# EAGLE library part AMD_ELAN_SC_520 (library AMD_ELAN_SC_520)
MICROCONTROLLER
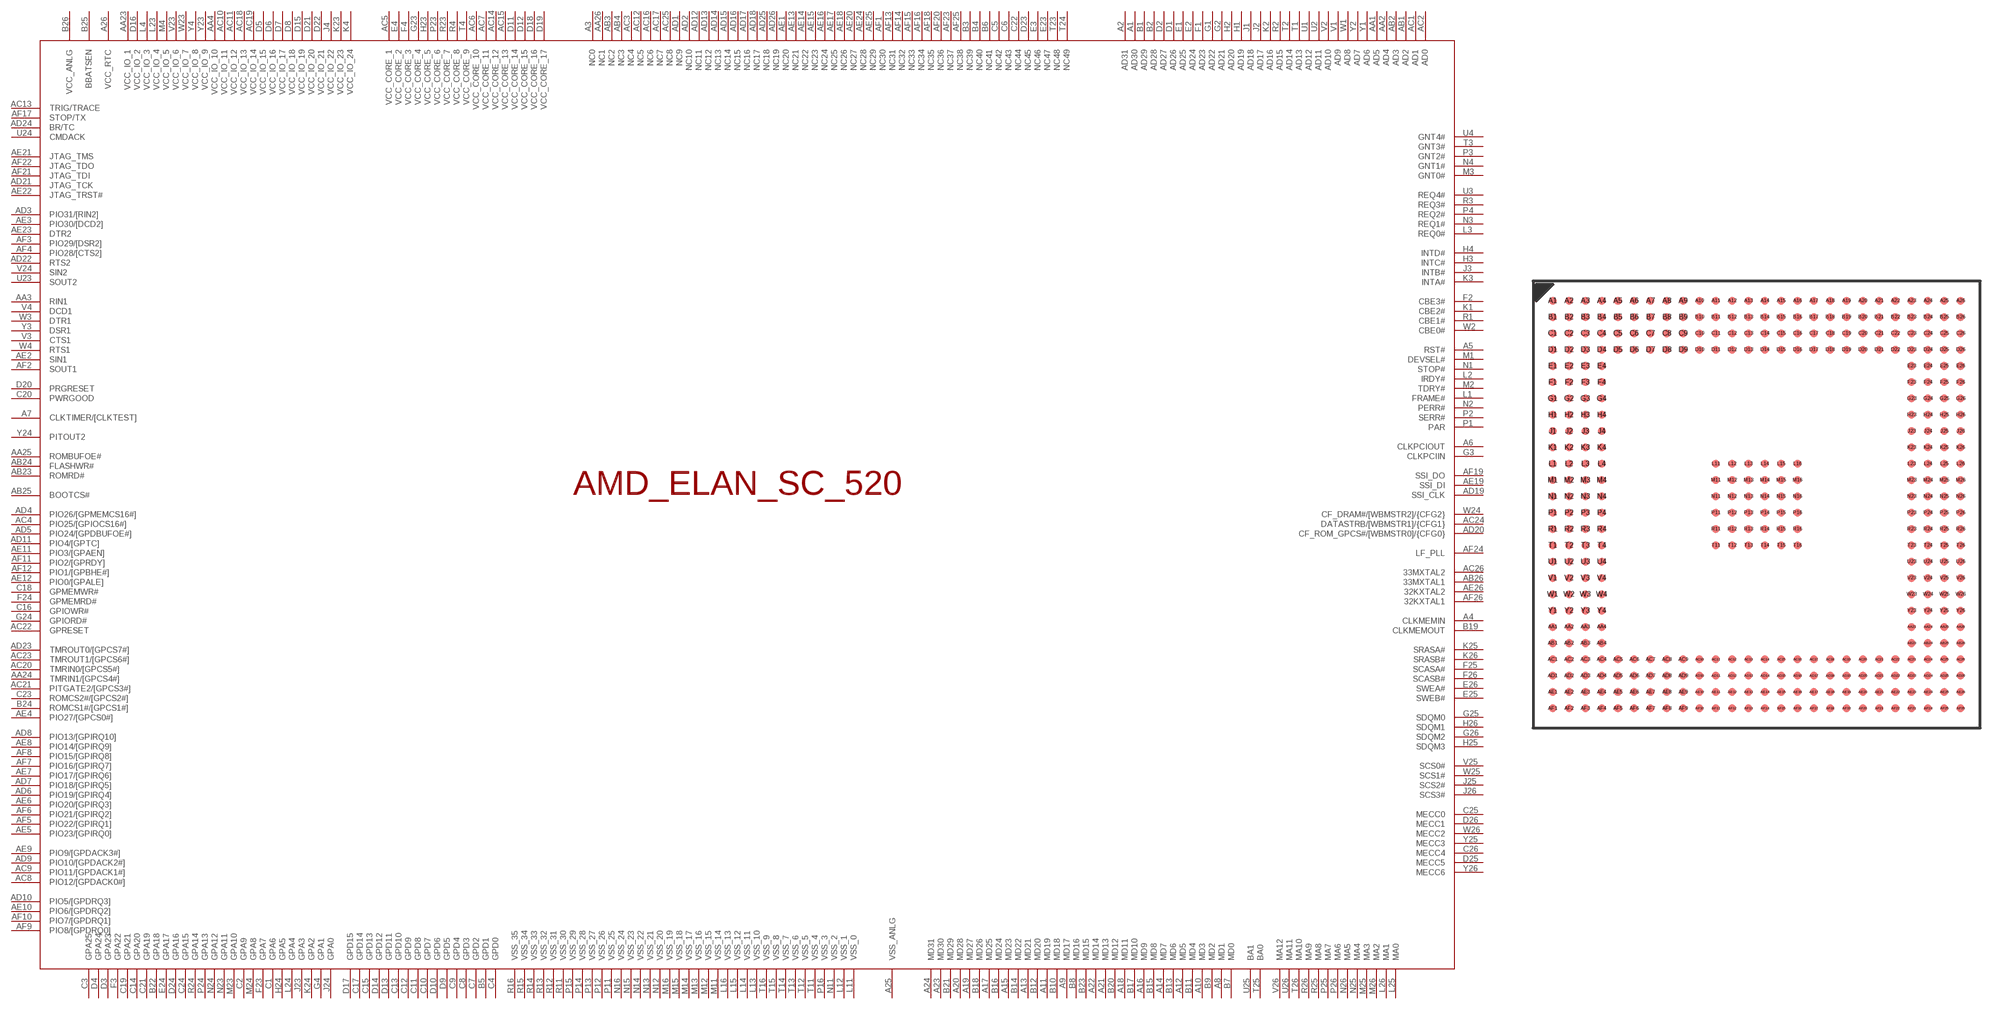
[diagram p0: symbol with the pads of AMD_SC_520_BGA_388; footprint AMD_SC_520_BGA_388]

Designator prefix IC

## AMD_ELAN_SC_520  [AMD_SC_520_BGA_388]
A1  AD30
A2  AD31
A3  NC0  nc
A4  CLKMEMIN  in
A5  RST#  out
A6  CLKPCIOUT  out
A7  CLKTIMER/[CLKTEST]  in
A8  MD1
A9  MD17
A10  MD3
A11  MD19
A12  MD5
A13  MD21
A14  MD7
A15  MD23
A16  MD9
A17  MD25
A18  MD11
A19  MD27
A20  MD28
A21  MD13
A22  MD14
A23  MD30
A24  MD31
A25  VSS_ANLG  pwr
A26  VCC_RTC  pwr
AA1  AD5
AA2  AD4
AA3  RIN1  in
AA4  VCC_IO_10  pwr
AA23  VCC_IO_1  pwr
AA24  TMRIN1/[GPCS4#]  in
AA25  ROMBUFOE#  out
AA26  NC1  nc
AB1  AD2
AB2  AD3
AB3  NC2  nc
AB4  NC3  nc
AB23  ROMRD#  out
AB24  FLASHWR#  out
AB25  BOOTCS#  out
AB26  33MXTAL1
AC1  AD1
AC2  AD0
AC3  NC4  nc
AC4  PIO25/[GPIOCS16#]  in
AC5  VCC_CORE_1  pwr
AC6  VCC_CORE_10  pwr
AC7  VCC_CORE_11  pwr
AC8  PIO12/[GPDACK0#]  out
AC9  PIO11/[GPDACK1#]  out
AC10  VCC_IO_11  pwr
AC11  VCC_IO_12  pwr
AC12  NC5  nc
AC13  TRIG/TRACE  out
AC14  VCC_CORE_12  pwr
AC15  VCC_CORE_13  pwr
AC16  NC6  nc
AC17  NC7  nc
AC18  VCC_IO_13  pwr
AC19  VCC_IO_14  pwr
AC20  TMRIN0/[GPCS5#]  in
AC21  PITGATE2/[GPCS3#]  out
AC22  GPRESET  out
AC23  TMROUT1/[GPCS6#]  out
AC24  DATASTRB/[WBMSTR1]/{CFG1}
AC25  NC8  nc
AC26  33MXTAL2  out
AD1  NC9  nc
AD2  NC10  nc
AD3  PIO31/[RIN2]  in
AD4  PIO26/[GPMEMCS16#]  in
AD5  PIO24/[GPDBUFOE#]  out
AD6  PIO19/[GPIRQ4]
AD7  PIO18/[GPIRQ5]
AD8  PIO13/[GPIRQ10]
AD9  PIO10/[GPDACK2#]  out
AD10  PIO5/[GPDRQ3]  in
AD11  PIO4/[GPTC]  out
AD12  NC11  nc
AD13  NC12  nc
AD14  NC13  nc
AD15  NC14  nc
AD16  NC15  nc
AD17  NC16  nc
AD18  NC17  nc
AD19  SSI_CLK  out
AD20  CF_ROM_GPCS#/[WBMSTR0]/{CFG0}
AD21  JTAG_TCK  in
AD22  RTS2  out
AD23  TMROUT0/[GPCS7#]  out
AD24  BR/TC  in
AD25  NC18  nc
AD26  NC19  nc
AE1  NC20  nc
AE2  SIN1  in
AE3  PIO30/[DCD2]  in
AE4  PIO27/[GPCS0#]
AE5  PIO23/[GPIRQ0]
AE6  PIO20/[GPIRQ3]
AE7  PIO17/[GPIRQ6]
AE8  PIO14/[GPIRQ9]
AE9  PIO9/[GPDACK3#]  out
AE10  PIO6/[GPDRQ2]  in
AE11  PIO3/[GPAEN]  out
AE12  PIO0/[GPALE]  out
AE13  NC21  nc
AE14  NC22  nc
AE15  NC23  nc
AE16  NC24  nc
AE17  NC25  nc
AE18  NC26  nc
AE19  SSI_DI  in
AE20  NC27  nc
AE21  JTAG_TMS  in
AE22  JTAG_TRST#  in
AE23  DTR2  out
AE24  NC28  nc
AE25  NC29  nc
AE26  32KXTAL2
AF1  NC30  nc
AF2  SOUT1  out
AF3  PIO29/[DSR2]  in
AF4  PIO28/[CTS2]  in
AF5  PIO22/[GPIRQ1]
AF6  PIO21/[GPIRQ2]
AF7  PIO16/[GPIRQ7]
AF8  PIO15/[GPIRQ8]
AF9  PIO8/[GPDRQ0]  in
AF10  PIO7/[GPDRQ1]  in
AF11  PIO2/[GPRDY]  in
AF12  PIO1/[GPBHE#]  out
AF13  NC31  nc
AF14  NC32  nc
AF15  NC33  nc
AF16  NC34  nc
AF17  STOP/TX  out
AF18  NC35  nc
AF19  SSI_DO  out
AF20  NC36  nc
AF21  JTAG_TDI  in
AF22  JTAG_TDO  out
AF23  NC37  nc
AF24  LF_PLL  in
AF25  NC38  nc
AF26  32KXTAL1
B1  AD29
B2  AD28
B3  NC39  nc
B4  NC40  nc
B5  GPD1
B6  NC41  nc
B7  MD0
B8  MD16
B9  MD2
B10  MD18
B11  MD4
B12  MD20
B13  MD6
B14  MD22
B15  MD8
B16  MD24
B17  MD10
B18  MD26
B19  CLKMEMOUT  out
B20  MD12
B21  MD29
B22  GPA18  out
B23  MD15
B24  ROMCS1#/[GPCS1#]  out
B25  BBATSEN
B26  VCC_ANLG  pwr
C1  GPA6  out
C2  GPA9  out
C3  GPA25  out
C4  GPD0
C5  NC42  nc
C6  NC43  nc
C7  GPD2
C8  GPD3
C9  GPD4
C10  GPD7
C11  GPD8
C12  GPD9
C13  GPD10
C14  GPA20  out
C15  GPD13
C16  GPIOWR#  out
C17  GPD14
C18  GPMEMWR#  out
C19  GPA21  out
C20  PWRGOOD  in
C21  GPA19  out
C22  NC44  nc
C23  ROMCS2#/[GPCS2#]  out
C24  GPA15  out
C25  MECC0
C26  MECC4
D1  AD26
D2  AD27
D3  GPA23  out
D4  GPA24  out
D5  VCC_IO_15  pwr
D6  VCC_IO_16  pwr
D7  VCC_IO_17  pwr
D8  VCC_IO_18  pwr
D9  GPD5
D10  GPD6
D11  VCC_CORE_14  pwr
D12  VCC_CORE_15  pwr
D13  GPD11
D14  GPD12
D15  VCC_IO_19  pwr
D16  VCC_IO_2  pwr
D17  GPD15
D18  VCC_CORE_16  pwr
D19  VCC_CORE_17  pwr
D20  PRGRESET  in
D21  VCC_IO_20  pwr
D22  VCC_IO_21  pwr
D23  NC45  nc
D24  GPA16  out
D25  MECC5
D26  MECC1
E1  AD25
E2  AD24
E3  NC46  nc
E4  VCC_CORE_2  pwr
E23  NC47  nc
E24  GPA17  out
E25  SWEB#  out
E26  SWEA#  out
F1  AD23
F2  CBE3#
F3  GPA22  out
F4  VCC_CORE_3  pwr
F23  GPA7  out
F24  GPMEMRD#  out
F25  SCASA#  out
F26  SCASB#  out
G1  AD22
G2  AD21
G3  CLKPCIIN  in
G4  GPA1  out
G23  VCC_CORE_4  pwr
G24  GPIORD#  out
G25  SDQM0  out
G26  SDQM2  out
H1  AD19
H2  AD20
H3  INTC#  in
H4  INTD#  in
H23  VCC_CORE_5  pwr
H24  GPA5  out
H25  SDQM3  out
H26  SDQM1  out
J1  AD18
J2  AD17
J3  INTB#  in
J4  VCC_IO_22  pwr
J23  GPA3  out
J24  GPA0  out
J25  SCS2#  out
J26  SCS3#  out
K1  CBE2#
K2  AD16
K3  INTA#  in
K4  VCC_IO_24  pwr
K23  VCC_IO_23  pwr
K24  GPA2  out
K25  SRASA#  out
K26  SRASB#  out
L1  FRAME#
L2  IRDY#
L3  REQ0#  in
L4  VCC_IO_3  pwr
L11  VSS_0  pwr
L12  VSS_1  pwr
L13  VSS_10  pwr
L14  VSS_11  pwr
L15  VSS_12  pwr
L16  VSS_13  pwr
L23  VCC_IO_4  pwr
L24  GPA4  out
L25  MA0  out
L26  MA1  out
M1  DEVSEL#
M2  TDRY#
M3  GNT0#  out
M4  VCC_IO_5  pwr
M11  VSS_14  pwr
M12  VSS_15  pwr
M13  VSS_16  pwr
M14  VSS_17  pwr
M15  VSS_18  pwr
M16  VSS_19  pwr
M23  GPA10  out
M24  GPA8  out
M25  MA3  out
M26  MA2  out
N1  STOP#
N2  PERR#
N3  REQ1#  in
N4  GNT1#  out
N11  VSS_2  pwr
N12  VSS_20  pwr
N13  VSS_21  pwr
N14  VSS_22  pwr
N15  VSS_23  pwr
N16  VSS_24  pwr
N23  GPA11  out
N24  GPA12  out
N25  MA4  out
N26  MA5  out
P1  PAR
P2  SERR#  in
P3  GNT2#  out
P4  REQ2#  in
P11  VSS_25  pwr
P12  VSS_26  pwr
P13  VSS_27  pwr
P14  VSS_28  pwr
P15  VSS_29  pwr
P16  VSS_3  pwr
P23  VCC_CORE_6  pwr
P24  GPA13  out
P25  MA7  out
P26  MA6  out
R1  CBE1#
R2  AD15
R3  REQ3#  in
R4  VCC_CORE_8  pwr
R11  VSS_30  pwr
R12  VSS_31  pwr
R13  VSS_32  pwr
R14  VSS_33  pwr
R15  VSS_34  pwr
R16  VSS_35  pwr
R23  VCC_CORE_7  pwr
R24  GPA14  out
R25  MA8  out
R26  MA9  out
T1  AD13
T2  AD14
T3  GNT3#  out
T4  VCC_CORE_9  pwr
T11  VSS_4  pwr
T12  VSS_5  pwr
T13  VSS_6  pwr
T14  VSS_7  pwr
T15  VSS_8  pwr
T16  VSS_9  pwr
T23  NC48  nc
T24  NC49  nc
T25  BA0  out
T26  MA10  out
U1  AD12
U2  AD11
U3  REQ4#  in
U4  GNT4#  out
U23  SOUT2  out
U24  CMDACK  out
U25  BA1  out
U26  MA11  out
V1  AD9
V2  AD10
V3  CTS1  in
V4  DCD1  in
V23  VCC_IO_6  pwr
V24  SIN2  in
V25  SCS0#  out
V26  MA12  out
W1  AD8
W2  CBE0#
W3  DTR1  out
W4  RTS1  out
W23  VCC_IO_7  pwr
W24  CF_DRAM#/[WBMSTR2]/{CFG2}
W25  SCS1#  out
W26  MECC2
Y1  AD6
Y2  AD7
Y3  DSR1  in
Y4  VCC_IO_8  pwr
Y23  VCC_IO_9  pwr
Y24  PITOUT2  out
Y25  MECC3
Y26  MECC6

## Footprint AMD_SC_520_BGA_388 (pad centres in mm)
Plastic Ball Grid Array
smd 0.635 x 0.635: A1 -15.875,15.875; A2 -14.605,15.875; A3 -13.335,15.875; A4 -12.065,15.875; A5 -10.795,15.875; A6 -9.525,15.875; A7 -8.255,15.875; A8 -6.985,15.875; A9 -5.715,15.875; A10 -4.445,15.875; A11 -3.175,15.875; A12 -1.905,15.875; A13 -0.635,15.875; A14 0.635,15.875; A15 1.905,15.875; A16 3.175,15.875; A17 4.445,15.875; A18 5.715,15.875; A19 6.985,15.875; A20 8.255,15.875; A21 9.525,15.875; A22 10.795,15.875; A23 12.065,15.875; A24 13.335,15.875; A25 14.605,15.875; A26 15.875,15.875; AA1 -15.875,-9.525; AA2 -14.605,-9.525; AA3 -13.335,-9.525; AA4 -12.065,-9.525; AA23 12.065,-9.525; AA24 13.335,-9.525; AA25 14.605,-9.525; AA26 15.875,-9.525; AB1 -15.875,-10.795; AB2 -14.605,-10.795; AB3 -13.335,-10.795; AB4 -12.065,-10.795; AB23 12.065,-10.795; AB24 13.335,-10.795; AB25 14.605,-10.795; AB26 15.875,-10.795; AC1 -15.875,-12.065; AC2 -14.605,-12.065; AC3 -13.335,-12.065; AC4 -12.065,-12.065; AC5 -10.795,-12.065; AC6 -9.525,-12.065; AC7 -8.255,-12.065; AC8 -6.985,-12.065; AC9 -5.715,-12.065; AC10 -4.445,-12.065; AC11 -3.175,-12.065; AC12 -1.905,-12.065; AC13 -0.635,-12.065; AC14 0.635,-12.065; AC15 1.905,-12.065; AC16 3.175,-12.065; AC17 4.445,-12.065; AC18 5.715,-12.065; AC19 6.985,-12.065; AC20 8.255,-12.065; AC21 9.525,-12.065; AC22 10.795,-12.065; AC23 12.065,-12.065; AC24 13.335,-12.065; AC25 14.605,-12.065; AC26 15.875,-12.065; AD1 -15.875,-13.335; AD2 -14.605,-13.335; AD3 -13.335,-13.335; AD4 -12.065,-13.335; AD5 -10.795,-13.335; AD6 -9.525,-13.335; AD7 -8.255,-13.335; AD8 -6.985,-13.335; AD9 -5.715,-13.335; AD10 -4.445,-13.335; AD11 -3.175,-13.335; AD12 -1.905,-13.335; AD13 -0.635,-13.335; AD14 0.635,-13.335; AD15 1.905,-13.335; AD16 3.175,-13.335; AD17 4.445,-13.335; AD18 5.715,-13.335; AD19 6.985,-13.335; AD20 8.255,-13.335; AD21 9.525,-13.335; AD22 10.795,-13.335; AD23 12.065,-13.335; AD24 13.335,-13.335; AD25 14.605,-13.335; AD26 15.875,-13.335; AE1 -15.875,-14.605; AE2 -14.605,-14.605; AE3 -13.335,-14.605; AE4 -12.065,-14.605; AE5 -10.795,-14.605; AE6 -9.525,-14.605; AE7 -8.255,-14.605; AE8 -6.985,-14.605; AE9 -5.715,-14.605; AE10 -4.445,-14.605; AE11 -3.175,-14.605; AE12 -1.905,-14.605; AE13 -0.635,-14.605; AE14 0.635,-14.605; AE15 1.905,-14.605; AE16 3.175,-14.605; AE17 4.445,-14.605; AE18 5.715,-14.605; AE19 6.985,-14.605; AE20 8.255,-14.605; AE21 9.525,-14.605; AE22 10.795,-14.605; AE23 12.065,-14.605; AE24 13.335,-14.605; AE25 14.605,-14.605; AE26 15.875,-14.605; AF1 -15.875,-15.875; AF2 -14.605,-15.875; AF3 -13.335,-15.875; AF4 -12.065,-15.875; AF5 -10.795,-15.875; AF6 -9.525,-15.875; AF7 -8.255,-15.875; AF8 -6.985,-15.875; AF9 -5.715,-15.875; AF10 -4.445,-15.875; AF11 -3.175,-15.875; AF12 -1.905,-15.875; AF13 -0.635,-15.875; AF14 0.635,-15.875; AF15 1.905,-15.875; AF16 3.175,-15.875; AF17 4.445,-15.875; AF18 5.715,-15.875; AF19 6.985,-15.875; AF20 8.255,-15.875; AF21 9.525,-15.875; AF22 10.795,-15.875; AF23 12.065,-15.875; AF24 13.335,-15.875; AF25 14.605,-15.875; AF26 15.875,-15.875; B1 -15.875,14.605; B2 -14.605,14.605; B3 -13.335,14.605; B4 -12.065,14.605; B5 -10.795,14.605; B6 -9.525,14.605; B7 -8.255,14.605; B8 -6.985,14.605; B9 -5.715,14.605; B10 -4.445,14.605; B11 -3.175,14.605; B12 -1.905,14.605; B13 -0.635,14.605; B14 0.635,14.605; B15 1.905,14.605; B16 3.175,14.605; B17 4.445,14.605; B18 5.715,14.605; B19 6.985,14.605; B20 8.255,14.605; B21 9.525,14.605; B22 10.795,14.605; B23 12.065,14.605; B24 13.335,14.605; B25 14.605,14.605; B26 15.875,14.605; C1 -15.875,13.335; C2 -14.605,13.335; C3 -13.335,13.335; C4 -12.065,13.335; C5 -10.795,13.335; C6 -9.525,13.335; C7 -8.255,13.335; C8 -6.985,13.335; C9 -5.715,13.335; C10 -4.445,13.335; C11 -3.175,13.335; C12 -1.905,13.335; C13 -0.635,13.335; C14 0.635,13.335; C15 1.905,13.335; C16 3.175,13.335; C17 4.445,13.335; C18 5.715,13.335; C19 6.985,13.335; C20 8.255,13.335; C21 9.525,13.335; C22 10.795,13.335; C23 12.065,13.335; C24 13.335,13.335; C25 14.605,13.335; C26 15.875,13.335; D1 -15.875,12.065; D2 -14.605,12.065; D3 -13.335,12.065; D4 -12.065,12.065; D5 -10.795,12.065; D6 -9.525,12.065; D7 -8.255,12.065; D8 -6.985,12.065; D9 -5.715,12.065; D10 -4.445,12.065; D11 -3.175,12.065; D12 -1.905,12.065; D13 -0.635,12.065; D14 0.635,12.065; D15 1.905,12.065; D16 3.175,12.065; D17 4.445,12.065; D18 5.715,12.065; D19 6.985,12.065; D20 8.255,12.065; D21 9.525,12.065; D22 10.795,12.065; D23 12.065,12.065; D24 13.335,12.065; D25 14.605,12.065; D26 15.875,12.065; E1 -15.875,10.795; E2 -14.605,10.795; E3 -13.335,10.795; E4 -12.065,10.795; E23 12.065,10.795; E24 13.335,10.795; E25 14.605,10.795; E26 15.875,10.795; F1 -15.875,9.525; F2 -14.605,9.525; F3 -13.335,9.525; F4 -12.065,9.525; F23 12.065,9.525; F24 13.335,9.525; F25 14.605,9.525; F26 15.875,9.525; G1 -15.875,8.255; G2 -14.605,8.255; G3 -13.335,8.255; G4 -12.065,8.255; G23 12.065,8.255; G24 13.335,8.255; G25 14.605,8.255; G26 15.875,8.255; H1 -15.875,6.985; H2 -14.605,6.985; H3 -13.335,6.985; H4 -12.065,6.985; H23 12.065,6.985; H24 13.335,6.985; H25 14.605,6.985; H26 15.875,6.985; J1 -15.875,5.715; J2 -14.605,5.715; J3 -13.335,5.715; J4 -12.065,5.715; J23 12.065,5.715; J24 13.335,5.715; J25 14.605,5.715; J26 15.875,5.715; K1 -15.875,4.445; K2 -14.605,4.445; K3 -13.335,4.445; K4 -12.065,4.445; K23 12.065,4.445; K24 13.335,4.445; K25 14.605,4.445; K26 15.875,4.445; L1 -15.875,3.175; L2 -14.605,3.175; L3 -13.335,3.175; L4 -12.065,3.175; L11 -3.175,3.175; L12 -1.905,3.175; L13 -0.635,3.175; L14 0.635,3.175; L15 1.905,3.175; L16 3.175,3.175; L23 12.065,3.175; L24 13.335,3.175; L25 14.605,3.175; L26 15.875,3.175; M1 -15.875,1.905; M2 -14.605,1.905; M3 -13.335,1.905; M4 -12.065,1.905; M11 -3.175,1.905; M12 -1.905,1.905; M13 -0.635,1.905; M14 0.635,1.905; M15 1.905,1.905; M16 3.175,1.905; M23 12.065,1.905; M24 13.335,1.905; M25 14.605,1.905; M26 15.875,1.905; N1 -15.875,0.635; N2 -14.605,0.635; N3 -13.335,0.635; N4 -12.065,0.635; N11 -3.175,0.635; N12 -1.905,0.635; N13 -0.635,0.635; N14 0.635,0.635; N15 1.905,0.635; N16 3.175,0.635; N23 12.065,0.635; N24 13.335,0.635; N25 14.605,0.635; N26 15.875,0.635; P1 -15.875,-0.635; P2 -14.605,-0.635; P3 -13.335,-0.635; P4 -12.065,-0.635; P11 -3.175,-0.635; P12 -1.905,-0.635; P13 -0.635,-0.635; P14 0.635,-0.635; P15 1.905,-0.635; P16 3.175,-0.635; P23 12.065,-0.635; P24 13.335,-0.635; P25 14.605,-0.635; P26 15.875,-0.635; R1 -15.875,-1.905; R2 -14.605,-1.905; R3 -13.335,-1.905; R4 -12.065,-1.905; R11 -3.175,-1.905; R12 -1.905,-1.905; R13 -0.635,-1.905; R14 0.635,-1.905; R15 1.905,-1.905; R16 3.175,-1.905; R23 12.065,-1.905; R24 13.335,-1.905; R25 14.605,-1.905; R26 15.875,-1.905; T1 -15.875,-3.175; T2 -14.605,-3.175; T3 -13.335,-3.175; T4 -12.065,-3.175; T11 -3.175,-3.175; T12 -1.905,-3.175; T13 -0.635,-3.175; T14 0.635,-3.175; T15 1.905,-3.175; T16 3.175,-3.175; T23 12.065,-3.175; T24 13.335,-3.175; T25 14.605,-3.175; T26 15.875,-3.175; U1 -15.875,-4.445; U2 -14.605,-4.445; U3 -13.335,-4.445; U4 -12.065,-4.445; U23 12.065,-4.445; U24 13.335,-4.445; U25 14.605,-4.445; U26 15.875,-4.445; V1 -15.875,-5.715; V2 -14.605,-5.715; V3 -13.335,-5.715; V4 -12.065,-5.715; V23 12.065,-5.715; V24 13.335,-5.715; V25 14.605,-5.715; V26 15.875,-5.715; W1 -15.875,-6.985; W2 -14.605,-6.985; W3 -13.335,-6.985; W4 -12.065,-6.985; W23 12.065,-6.985; W24 13.335,-6.985; W25 14.605,-6.985; W26 15.875,-6.985; Y1 -15.875,-8.255; Y2 -14.605,-8.255; Y3 -13.335,-8.255; Y4 -12.065,-8.255; Y23 12.065,-8.255; Y24 13.335,-8.255; Y25 14.605,-8.255; Y26 15.875,-8.255